# Altium footprint library 5600201020.PcbLib: 1 footprints
Each footprint in its own frame and in the unit in brackets; x right, y up, seen from the top. Pads: shape width x height; smd on the part's side, far side on the other; paste and mask are expansions set on the pad; w line width, h text height; cw(c..) or ccw(c..) is an arc to the next point about the centre after c.
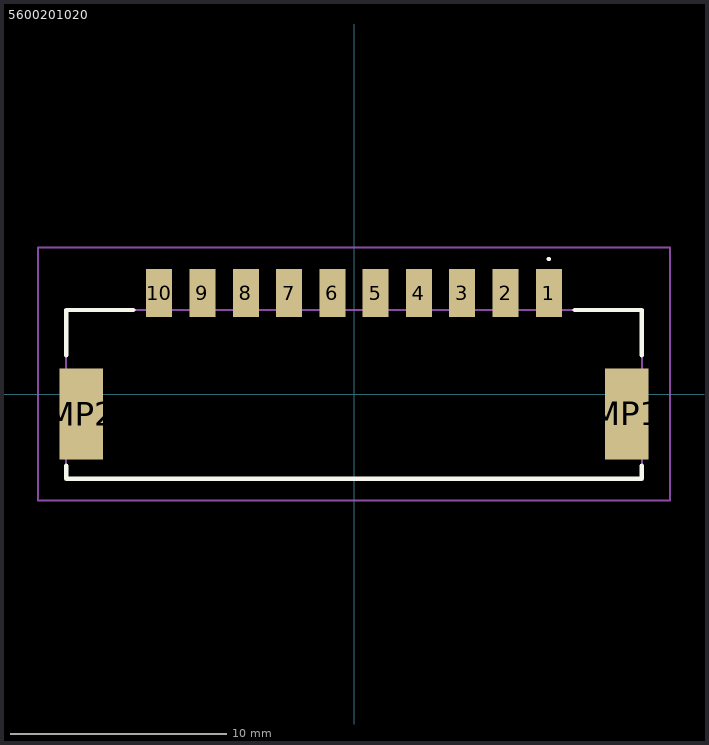
[diagram p0: the footprint, top view; thin cyan lines are the x and y axes]

## 5600201020 [mm]
pads (12):
  rect 1.2x2.2 smd: 1(9,4.68) 2(7,4.68) 3(5,4.68) 4(3,4.68) 5(1,4.68) 6(-1,4.68) 7(-3,4.68) 8(-5,4.68) 9(-7,4.68) 10(-9,4.68)
  rect 2x4.2 smd: MP1(12.6,-0.9) MP2(-12.6,-0.9)
Top Overlay:
  lines w0.1: 9,6.2 cw(c9,6.25) 9,6.3 ; 9,6.2 9,6.2 ; 9,6.2 ccw(c9,6.25) 9,6.3 ; 9,6.3 9,6.3
  lines w0.2: -13.3,-3.3 -13.3,-3.9 13.3,-3.9 13.3,-3.3 ; -13.3,1.8 -13.3,3.9 -10.2,3.9 ; 10.2,3.9 13.3,3.9 13.3,1.8
Mechanical 15:
  lines w0.1: -13.3,-3.9 13.3,-3.9 13.3,3.9 -13.3,3.9 -13.3,-3.9
Mechanical 20:
  lines w0.1: -14.6,-4.9 14.6,-4.9 14.6,6.78 -14.6,6.78 -14.6,-4.9